# Altium footprint library CUI_CMI-1275C-050.PcbLib: 1 footprints
Each footprint in its own frame and in the unit in brackets; x right, y up, seen from the top. Pads: shape width x height; smd on the part's side, far side on the other; paste and mask are expansions set on the pad; w line width, h text height; cw(c..) or ccw(c..) is an arc to the next point about the centre after c.
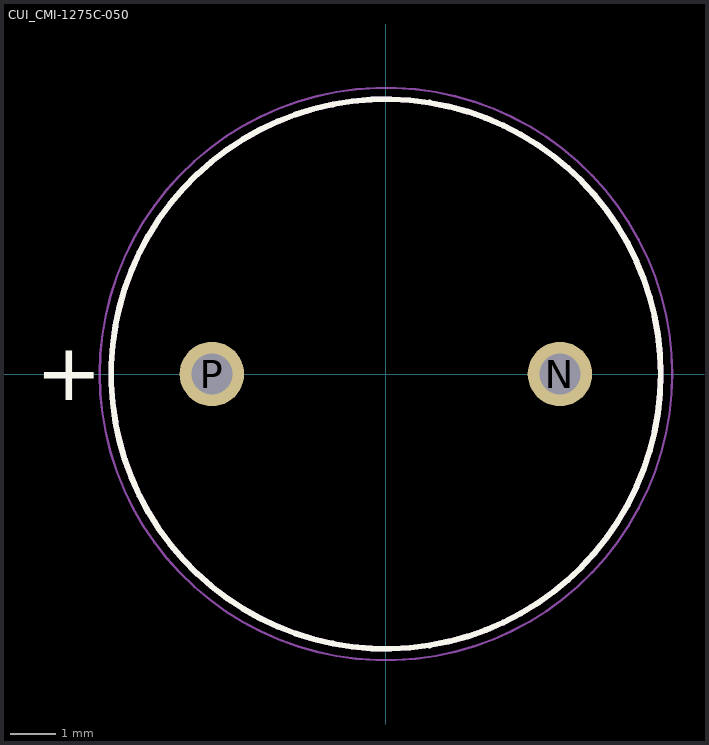
[diagram p0: the footprint, top view; thin cyan lines are the x and y axes]

## CUI_CMI-1275C-050 [mm]
pads (2):
  round 1.408 hole 0.9 mask+0.102: N(3.8,0) P(-3.8,0)
Top Overlay:
  circle w0.127: c0,0 r6
  text "+" at -7.644,-0.57 h1.27
Assembly Top:
  circle w0.127: c0,0 r6
Courtyard Top:
  circle w0.05: c0,0 r6.25
3D body "step_temp.STEP": height 6, standoff -6, extent -6,-6 6,7